# Altium schematic symbol library rf.SchLib: 3 symbols
Pins are listed as number, name and electrical type; pins without a type are passive.

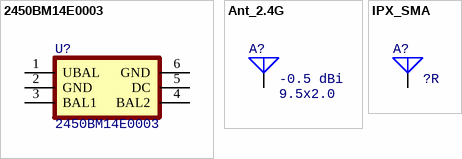
[diagram p0: symbols 2450BM14E0003 to IPX_SMA]

## 2450BM14E0003
designator U?
Balun
footprint _SMD_E60x30_P0.5_6
pins: 1 UBAL, 2 GND, 3 BAL1, 4 BAL2, 5 DC, 6 GND

## Ant_2.4G
designator A?, comment value -0.5 dBi  type: 9.5x2.0  (hidden comment: 2.4GHz 50R)
Antenna
footprint ANT_2.4G_9.5x2.0
footprint ANT_2.4G_3.2x1.6
footprint ANT_2.4G_Pcb
pins: 1 A

## IPX_SMA
designator A?  value ?R  (hidden comment: IPX_SMA)
IPX
footprint IPX_SMA
pins: 1 S